# Altium footprint library EEE-0JA470WR.PcbLib: 1 footprints
Each footprint in its own frame and in the unit in brackets; x right, y up, seen from the top. Pads: shape width x height; smd on the part's side, far side on the other; paste and mask are expansions set on the pad; w line width, h text height; cw(c..) or ccw(c..) is an arc to the next point about the centre after c.
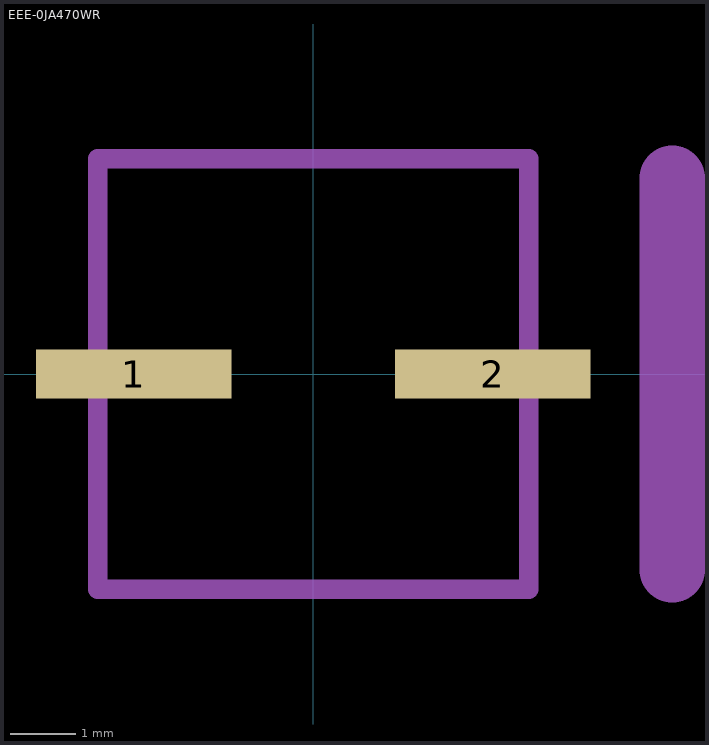
[diagram p0: the footprint, top view; thin cyan lines are the x and y axes]

## EEE-0JA470WR [mm]
pads (2):
  rect 3x0.75 smd: 1(-2.75,0) 2(2.75,0)
Mechanical 1:
  lines w0.3: -3.3,-3.3 -3.3,3.3 3.3,3.3 3.3,-3.3 -3.3,-3.3
  lines w1: 5.5,-3 5.5,3